# Altium footprint library 1N4733G_R0G.PcbLib: 2 footprints
Each footprint in its own frame and in the unit in brackets; x right, y up, seen from the top. Pads: shape width x height; smd on the part's side, far side on the other; paste and mask are expansions set on the pad; w line width, h text height; cw(c..) or ccw(c..) is an arc to the next point about the centre after c.
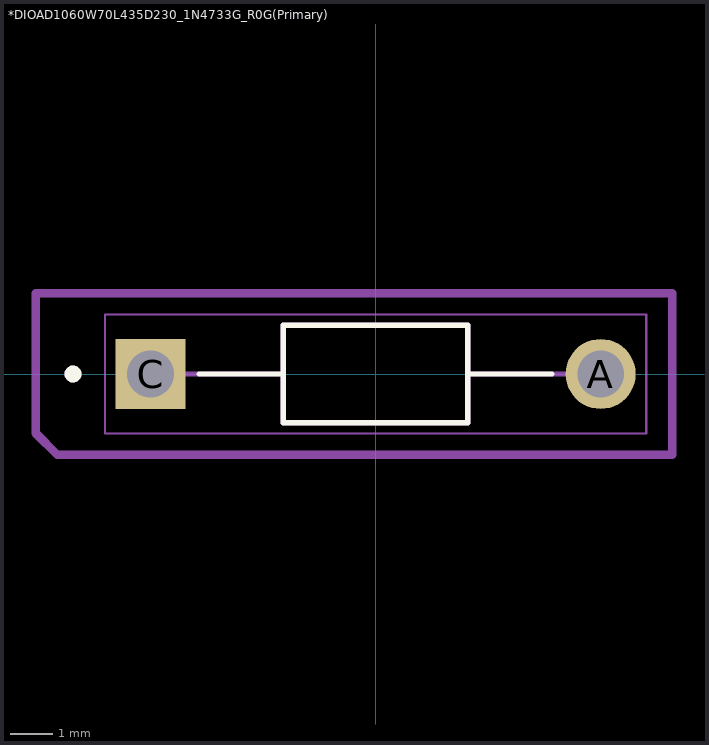
[diagram p0: the footprints below, top view; thin cyan lines are the x and y axes]

## *DIOAD1060W70L435D230_1N4733G_R0G(Primary) [mm]
pads (2):
  round 1.65 hole 1.1: A(5.3,0)
  rect 1.65x1.65 hole 1.1: C(-5.3,0)
Top Overlay:
  circle w0.2: c-7.125,0 r0.1
  lines w0.127: -4.155,0 -2.175,0 ; 4.155,0 2.175,0 ; -2.175,0 -2.175,-1.15 2.175,-1.15 2.175,0 ; -2.175,0 -2.175,1.15 2.175,1.15 2.175,0
Top Assembly:
  lines w0.2: -8.001,-1.397 -8.001,1.905 6.985,1.905 6.985,-1.905 -7.493,-1.905 -8.001,-1.397
  text "'.Designator'" at 0.734,2.629 h0.7
Mechanical 4:
  circle w0.2: c-7.125,0 r0.1
  circle w0.2: c-7.125,0 r0.1
  lines w0.127: -2.175,-1.15 2.175,-1.15 ; -2.175,-1.15 -2.175,0 ; -2.175,-1.15 2.175,-1.15 ; -2.175,-1.15 -2.175,0 ; -2.175,0 -5.3,0 -2.175,0 ; -2.175,0 -2.175,1.15 ; -2.175,0 -2.175,1.15 ; -2.175,1.15 2.175,1.15 ; -2.175,1.15 2.175,1.15 ; 2.175,-1.15 2.175,0 ; 2.175,-1.15 2.175,0 ; 2.175,0 5.3,0 2.175,0 ; 2.175,0 2.175,1.15 ; 2.175,0 2.175,1.15
Mechanical 16:
  lines w0.05: -6.375,-1.4 6.375,-1.4 6.375,1.4 -6.375,1.4 -6.375,-1.4

## PCBComponent_1 [mm]